# Altium schematic symbol library USB-eVo.SchLib: 12 symbols
Pins are listed as number, name and electrical type; pins without a type are passive.

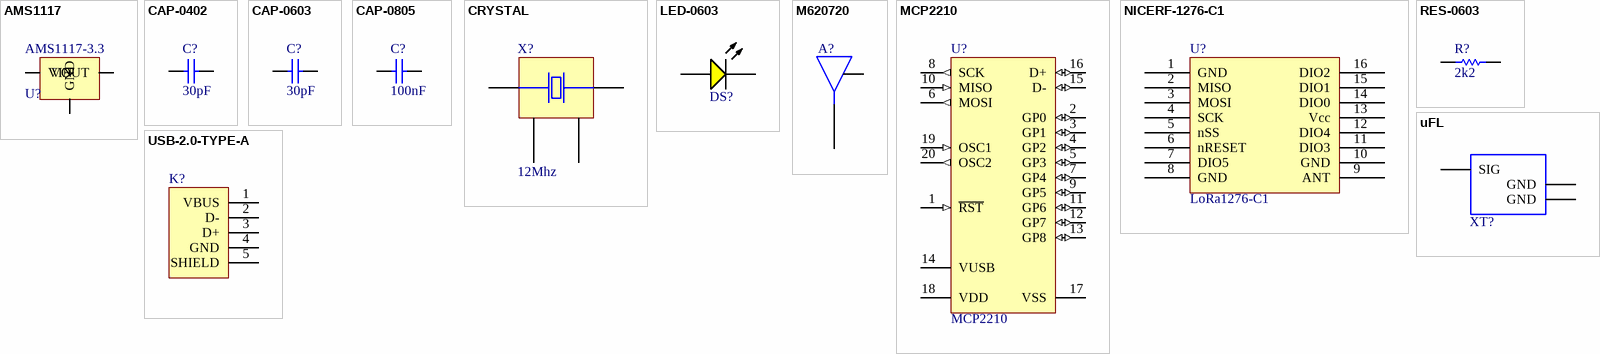
[diagram p0: symbols AMS1117 to USB-2.0-TYPE-A]

## AMS1117
designator U?, comment AMS1117-3.3
SOT223 1-Amp 3.3-Volt Low Drop Out Voltage Regulatator
footprint MP04A_N (SOT223, 4-Leads, Body 6.5x3.5mm, Pitch 2.3mm, Lead Span 7mm, IPC Medium Density)
pins: 1 GND, 2 VOUT, 3 VIN

## CAP-0402
designator C?, comment 30pF
Ceramic Capacitor SMT 0402
footprint SMD0402
pins: 1, 2

## CAP-0603
designator C?, comment 30pF
Ceramic Capacitor SMT 0603
footprint PCB-ek4stckt8htl49c36kec-1 (Footprint - Samsung CL10C150JB8NNNC)
pins: 1, 2

## CAP-0805
designator C?, comment 100nF
Ceramic Capacitor SMT 0805
footprint PCB-ej27tusgh07900z6l73j-1 (Footprint - Kemet C0805C200J5GACTU)
footprint CAPC2013X88X50LL20T25
footprint CAPC2013X88X50ML20T25
footprint CAPC2013X88X50NL20T25
pins: 1, 2
1 alternate drawing of the same symbol

## CRYSTAL
designator X?, comment 12Mhz
Crystal 32.0000mhz 18pf Smd
footprint PCB-o7tdnptwbjgdfbskc48q-1 (Quartz Crystal, Body 5.0 x 3.2 mm, Height 1.05mm)
pins: 1 X1, 2 GND, 3 X2, 4 GND

## LED-0603
designator DS?
LED SMD 0603
footprint VISH-TLMX1100-2_V (SMD, 2-Leads, Body 1.6x0.8mm)
pins: 1 A, 2 K

## M620720
designator A?, comment Ethertronics M620720  (value not drawn)
ISM 868/900MHz (6x2x1.08mm) - Antenna
footprint PCB-quosej9db2l5wore21ob-1 (Footprint - Ethertronics M620720)
footprint M620720
pins: 1 ANT "RF input", 2 CAP "RF tune", GND (power) hidden to GND

## MCP2210
designator U?
USB-to-SPI Protocol Converter with GPIO (Master Mode), 20-Pin QFN, Industrial Temperature; Manufacturer Part Number: MCP2210-I/MQ; Data Rate: 12000000.0 bps; Lead-Free Status: Lead Free; Lifecycle Status: Active; Mounting Style: Surface Mount; Number of Pins: 20; RoHS: Compliant
footprint QFN-MQ20_M (QFN, 20-Leads, Body 5x5mm, Pitch 0.65mm, Thermal Pad 3.4x3.4mm, IPC Low Density)
footprint QFN-MQ20_L (QFN, 20-Leads, Body 5x5mm, Pitch 0.65mm, Thermal Pad 3.4x3.4mm, IPC High Density)
footprint QFN-MQ20_N (QFN, 20-Leads, Body 5x5mm, Pitch 0.65mm, Thermal Pad 3.4x3.4mm, IPC Medium Density)
pins: 1 ~{RST} (in), 2 GP0 (io), 3 GP1 (io), 4 GP2 (io), 5 GP3 (io), 6 MOSI (out), 7 GP4 (io), 8 SCK (out), 9 GP5 (io), 10 MISO (in), 11 GP6 (io), 12 GP7 (io), 13 GP8 (io), 14 VUSB (power), 15 D- (io), 16 D+ (io), 17 VSS (power), 18 VDD (power), 19 OSC1 (in), 20 OSC2 (out), 21 EP hidden to GND

## NICERF-1276-C1
designator U?, comment LoRa1276-C1
footprint PCB-a2va5fqqikhnlzod9i25-1 (Footprint - LoRa1276-C1)
pins: 1 GND, 2 MISO, 3 MOSI, 4 SCK, 5 nSS, 6 nRESET, 7 DIO5, 8 GND, 9 ANT, 10 GND, 11 DIO3, 12 DIO4, 13 Vcc, 14 DIO0, 15 DIO1, 16 DIO2

## RES-0603
designator R?, comment 2k2
Thick Film Resistors - SMD 0603; Mounting Style: Surface Mount
footprint RESC1608X55X30NL15T15
footprint RESC1608X55X30ML15T15
footprint RESC1608X55X30LL15T15
pins: 1, 2
1 alternate drawing of the same symbol

## uFL
designator XT?, comment U.FL-R-SMT(10)  (value not drawn)
Ultra Small Surface Mount Coaxial Connector, 50 Ohm
footprint HRS-U.FL-R-SMT_V (SMD, 3-Leads, Body 2.6x2.6mm)
pins: 1 GND (power), 2 GND (power), 3 SIG

## USB-2.0-TYPE-A
designator K?
Conn USB 2.0 Type A PL 4 POS 2mm/2.5mm Solder RA Thru-Hole 4 Terminal 1 Port Tray
footprint USB-A-H
pins: 1 VBUS, 2 D-, 3 D+, 4 GND, 5 SHIELD